# Altium schematic symbol library ZHCS1000.Schlib: 1 symbol
Pins are listed as number, name and electrical type; pins without a type are passive.

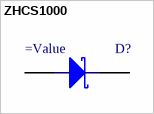
[diagram p0: symbol ZHCS1000]

## ZHCS1000
designator D?
=Description
pins: 1 C, 3 A